# EAGLE library part SN74HCS00DR (library ruark2)
NAND Gate IC 4 Channel Schmitt Trigger Input 14-SOIC
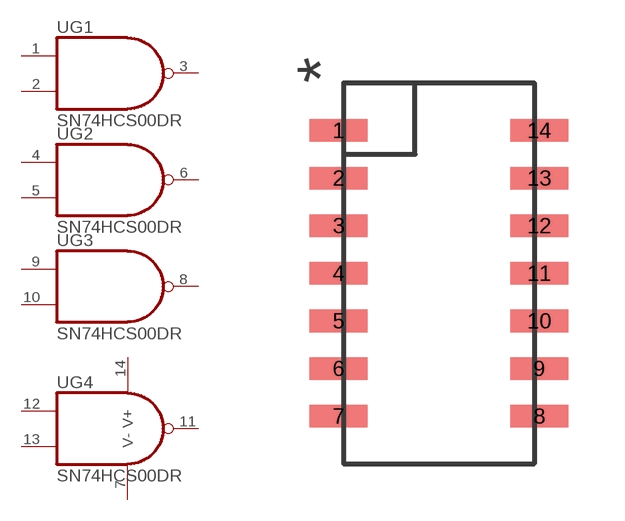
[diagram p174: symbol with the pads of SOIC-14; footprint SOIC-14]

Designator prefix U; gates G1=NAND G2=NAND G3=NAND G4=NAND_PWR

## SN74HCS00DR (PARTNO: 296-SN74HCS00DRCT-ND)  [SOIC-14]
1  G1:I0  in
2  G1:I1  in
3  G1:O  oc
4  G2:I0  in
5  G2:I1  in
6  G2:O  oc
7  G4:V-
8  G3:O  oc
9  G3:I0  in
10  G3:I1  in
11  G4:O  oc
12  G4:I0  in
13  G4:I1  in
14  G4:V+

## Footprint SOIC-14 (pad centres in mm)
smd 1.55 x 0.6: 1 -2.675,3.81; 2 -2.675,2.54; 3 -2.675,1.27; 4 -2.675,0; 5 -2.675,-1.27; 6 -2.675,-2.54; 7 -2.675,-3.81; 8 2.675,-3.81; 9 2.675,-2.54; 10 2.675,-1.27; 11 2.675,0; 12 2.675,1.27; 13 2.675,2.54; 14 2.675,3.81